# Altium footprint library Vote.PcbLib: 19 footprints (part 1 of 2)
Each footprint in its own frame and in the unit in brackets; x right, y up, seen from the top. Pads: shape width x height; smd on the part's side, far side on the other; paste and mask are expansions set on the pad; w line width, h text height; cw(c..) or ccw(c..) is an arc to the next point about the centre after c.
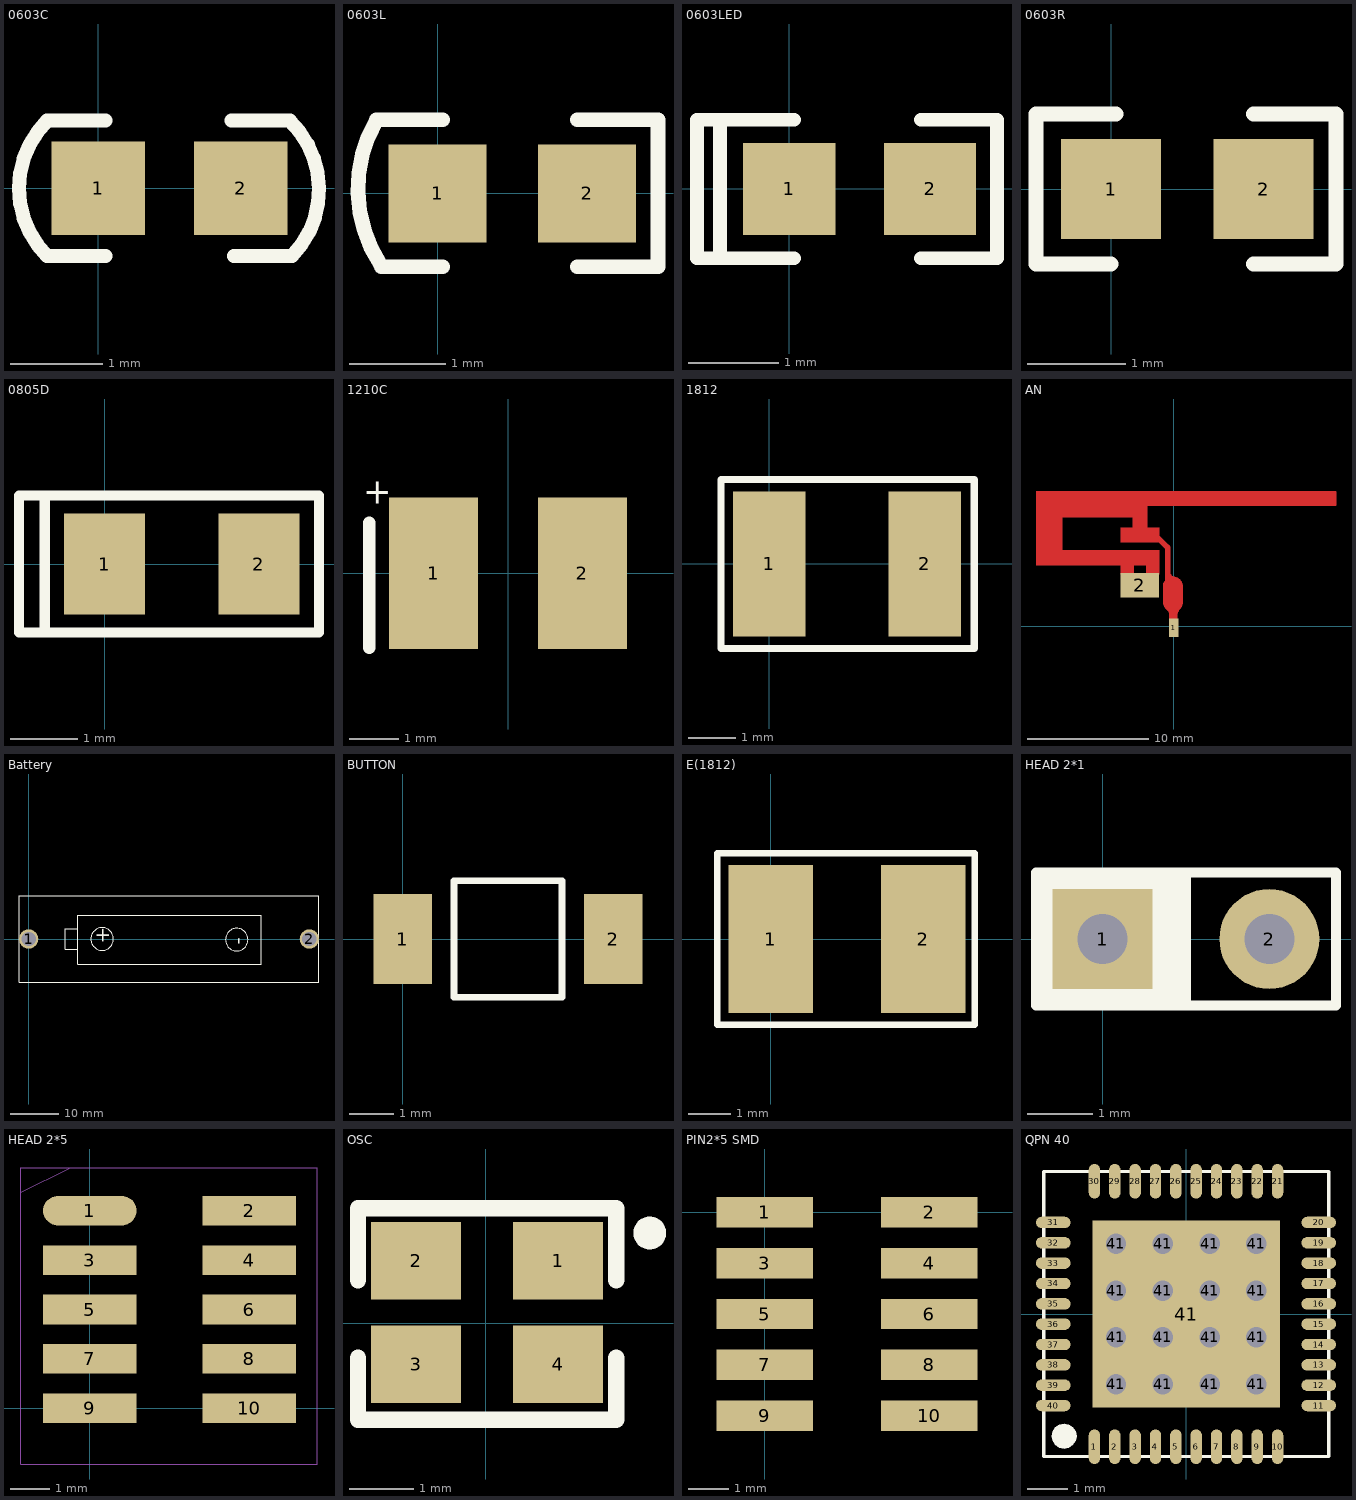
[diagram p0: the footprints below, top view; thin cyan lines are the x and y axes]

## 0603C [mil] "C"
pads (2):
  rect 40x40 smd: 1(0,0) 2(61,0)
Top Overlay:
  lines w6: -22,-28.98 cw(c6.99,0.01) -22,29 3,29 ; -21,-29 3,-29 ; 57,29 82,29 cw(c53.5,-0.5) 83,-29 58,-29

## 0603L [mil]
pads (2):
  rect 40x40 smd: 1(0,0) 2(61,0)
Top Overlay:
  lines w6: -23.45,-28.99 cw(c24.02,1.77) -25,30 2,30 ; -23,-30 2,-30 ; 57,-30 90,-30 90,30 57,30

## 0603LED [mil]
pads (2):
  rect 40x40 smd: 1(0,0) 2(61,0)
Top Overlay:
  lines w6: 2,-30 -30,-30 ; 2,30 -30,30 ; 57,-30 90,-30 90,30 57,30 ; -30,-30 -40,-30 -40,30 -30,30 ; -30,-30 -30,30

## 0603R [mil] "R"
pads (2):
  rect 40x40 smd: 1(0,0) 2(61,0)
Top Overlay:
  lines w6: 0,-30 -30,-30 -30,30 2,30 ; 57,-30 90,-30 90,30 57,30

## 0805D [mm]
pads (2):
  rect 1.2x1.5 smd: 1(0,0) 2(2.286,0)
Top Overlay:
  lines w0.152: -0.889,-1.016 -0.889,1.016 ; -0.889,-1.016 3.175,-1.016 3.175,1.016 -0.889,1.016 ; -0.889,-1.016 -1.27,-1.016 -1.27,1.016 -0.889,1.016

## 1210C [mm]
pads (2):
  rect 1.8x3.048 smd: 1(-1.5,0) 2(1.5,0)
Top Overlay:
  lines w0.254: -2.794,-1.499 -2.794,1.016
  text "+" at -2.921,1.397 h0.5

## 1812 [mil]
pads (2):
  rect 60x120 smd: 1(0,0) 2(128.82,0)
Top Overlay:
  lines w6: -40,-70 170,-70 170,70 -40,70 -40,-70

## AN [mil]
pads (2):
  rect 30x60 smd: 1(0,-5)
  rect 125x80 smd: 2(-110,134)
Top Layer:
  rectangle: -91,169 -47,201
  rectangle: -174,168 -129,200
  rectangle: -14.76,-12.13 11.81,52.84
  rectangle: -90.55,129.61 -66.93,200.99
  rectangle: -76.93,118.78 -55.51,170.94
  rectangle: -173.23,274.29 -47.24,321.54
  rectangle: -83.66,287.09 -46.26,321.54
  rectangle: -90.39,129.61 -66.77,200.99
  rectangle: -173.07,274.29 -47.09,321.54
  rectangle: -83.5,287.09 -46.1,321.54
  rectangle: -10.83,-11.14 11.81,51.85
  rectangle: -15.75,153.23 -7.87,165.04
  rectangle: -169.13,165.04 -132.87,170.94
  rectangle: -12.79,-12.13 11.81,47.91
  rectangle: -12.79,-12.13 11.81,58.74
  rectangle: -93.5,394.37 527.56,437.68
  rectangle: -448,197 -362,440
  rectangle: -448,353 -86,440
  rectangle: -174,273 -46,321
  rectangle: -134,321 -86,440
  rectangle: -448,197 -47,248
  lines w3.94: -32.48,84.33 cw(c-26.57,80.39) -22.64,86.3 ; -13.78,170.95 ccw(c-2.46,171.44) -1.97,160.12 ; -12.79,175.87 ccw(c1.97,174.88) 0.98,160.12
  lines w5: -442.2,437.68 526.58,437.68 ; -141.73,394.37 526.58,394.37 ; -25.59,147.32 -28.3,144.61 ccw(c-18.22,134.53) -32.48,134.53 -32.48,76.26 ccw(c-9.2,76.26) -25.66,59.79 -18.65,52.78 ccw(c-6.89,64.55) -6.89,47.91 ; -23.52,57.66 -19.59,53.72 cw(c-43.11,30.2) -9.84,30.2 ; -6.89,49.78 -6.89,68.58 ; -6.89,78.42 -6.89,69.64 ccw(c9.91,69.64) -1.97,57.76 ; 9.84,33.15 cw(c45.49,33.15) 20.28,58.35 21.65,59.72 ; 14.76,68.08 14.76,82.36 ; 500,437.68 526.58,437.68 ; 501.97,394.37 526.58,394.37 ; 526.58,395.35 526.58,437.68 ; 526.58,413.07 526.58,394.37 ; 526.58,425.87 526.58,437.68
  lines w6: 11.81,143.39 cw(c11.81,138.63) 15.17,141.99 19.9,137.26 cw(c1.42,118.78) 27.56,118.78
  lines w10: -13.78,56.77 cw(c-13.78,52.02) -10.42,55.38
  lines w18.11: -58.89,295.15 -19.89,256.15 -19.89,135.99 ; -10.97,114.23 -4.84,114.23
  lines w64.96: -1.97,78.42 -1.97,129.79

## Battery [mm] "60mm*18mm"
pads (2):
  round 4 hole 3: 1(0,0) 2(58.25,0)
Top Overlay:
  circle w0.254: c15.24,0 r2.342
  circle w0.254: c43.18,-0.127 r2.342
  lines w0.254: 10.16,-2.159 7.62,-2.159 7.62,2.159 10.16,2.159 ; 10.16,-2.159 10.16,-5.207 48.26,-5.207 48.26,4.953 10.16,4.953 10.16,2.159 ; 10.16,-2.159 10.16,2.159 ; -2,-9 -2,9 60.25,9 60.25,-9 -2,-9
  text "+" at 16.764,-1.016 h3
  text "-" at 44.704,-1.143 h3

## BUTTON [mm]
pads (2):
  rect 1.3x2 smd paste+0 mask+0.2: 1(0,0) 2(4.7,0)
Top Overlay:
  lines w0.152: 1.143,-1.3 3.556,-1.3 3.556,1.3 1.143,1.3 1.143,-1.3

## E(1812) [mm]
pads (2):
  rect 2x3.5 smd: 1(0,0) 2(3.6,0)
Top Overlay:
  lines w0.152: -1.27,-2.032 4.826,-2.032 4.826,2.032 -1.27,2.032 -1.27,-2.032

## HEAD 2*1 [mil]
pads (2):
  rect 60x60 hole 30: 1(0,0)
  round 60 hole 30: 2(100,0)
Top Overlay:
  rectangle: -40,-40 50,40
  lines w6: 50,-40 50,40 ; -40,-40 140,-40 140,40 -40,40 -40,-40

## HEAD 2*5 [mm]
pads (10):
  oval 2.4x0.76 smd paste-0.01 mask+0.01: 1(0,5.08)
  rect 2.4x0.76 smd paste-0.01 mask+0.01: 2(4.1,5.08) 3(0,3.81) 4(4.1,3.81) 5(0,2.54) 6(4.1,2.54) 7(0,1.27) 8(4.1,1.27) 9(0,0) 10(4.1,0)
Mechanical 1:
  lines w0.025: -1.775,-1.43 -1.775,5.555 -0.505,6.19 5.845,6.19 5.845,-1.43 -1.775,-1.43
Mechanical 2:
  lines w0.003: -1.775,-1.43 5.845,-1.43 5.845,6.19 -1.775,6.19 -1.775,-1.43

## OSC [mm]
pads (4):
  rect 1.4x1.2 smd paste+0 mask+0.05: 1(1.118,0.965) 2(-1.082,0.965) 3(-1.082,-0.635) 4(1.118,-0.635)
Top Overlay:
  circle w0.254: c2.54,1.397 r0.127
  lines w0.254: -1.982,-0.535 -1.982,-1.497 2.018,-1.497 2.018,-0.535 ; -1.982,0.665 -1.982,1.779 2.018,1.779 2.018,0.665

## PIN2*5 SMD [mm]
pads (10):
  rect 2.4x0.76 smd paste-0.01 mask+0.01: 1(0,0) 2(4.1,0) 3(0,-1.27) 4(4.1,-1.27) 5(0,-2.54) 6(4.1,-2.54) 7(0,-3.81) 8(4.1,-3.81) 9(0,-5.08) 10(4.1,-5.08)

## QPN 40 [mm]
pads (57):
  oval 0.28x0.85 smd paste+0 mask+0.14: 1(-2.255,-3.26) 2(-1.755,-3.26) 3(-1.255,-3.26) 4(-0.755,-3.26) 5(-0.255,-3.26) 6(0.245,-3.26) 7(0.745,-3.26) 8(1.245,-3.26) 9(1.745,-3.26) 10(2.245,-3.26) 21(2.245,3.26) 22(1.745,3.26) 23(1.245,3.26) 24(0.745,3.26) 25(0.245,3.26) 26(-0.255,3.26) 27(-0.755,3.26) 28(-1.255,3.26) 29(-1.755,3.26) 30(-2.255,3.26)
  oval 0.85x0.28 smd paste+0 mask+0.14: 11(3.255,-2.25) 12(3.255,-1.75) 13(3.255,-1.25) 14(3.255,-0.75) 15(3.255,-0.25) 16(3.255,0.25) 17(3.255,0.75) 18(3.255,1.25) 19(3.255,1.75) 20(3.255,2.25) 31(-3.265,2.25) 32(-3.265,1.75) 33(-3.265,1.25) 34(-3.265,0.75) 35(-3.265,0.25) 36(-3.265,-0.25) 37(-3.265,-0.75) 38(-3.265,-1.25) 39(-3.265,-1.75) 40(-3.265,-2.25)
  round 0.581 hole 0.5 paste+0 mask+0: 41(-1.725,-1.725) 41(-1.725,-0.575) 41(-1.725,0.575) 41(-1.725,1.725) 41(-0.58,-0.57) 41(-0.575,-1.725) 41(-0.575,0.575) 41(-0.575,1.725) 41(0.575,-1.725) 41(0.575,-0.575) 41(0.575,0.575) 41(0.575,1.725) 41(1.725,-1.725) 41(1.725,-0.575) 41(1.725,0.575) 41(1.725,1.725)
  rect 4.6x4.6 smd paste-4.6 mask+0: 41(0,0)
Top Overlay:
  region: -2.694,-3 -2.717,-3.117 -2.784,-3.216 -2.883,-3.283 -3,-3.306 -3.117,-3.283 -3.216,-3.216 -3.283,-3.117 -3.306,-3 -3.283,-2.883 -3.216,-2.784 -3.117,-2.717 -3,-2.694 -2.883,-2.717 -2.784,-2.784 -2.717,-2.883
  lines w0.08: -3.5,-3.5 -3.5,3.5 3.5,3.5 3.5,-3.5 -3.5,-3.5